# Altium footprint library Connector_USB.PcbLib: 26 footprints (part 2 of 2)
Each footprint in its own frame and in the unit in brackets; x right, y up, seen from the top. Pads: shape width x height; smd on the part's side, far side on the other; paste and mask are expansions set on the pad; w line width, h text height; cw(c..) or ccw(c..) is an arc to the next point about the centre after c.
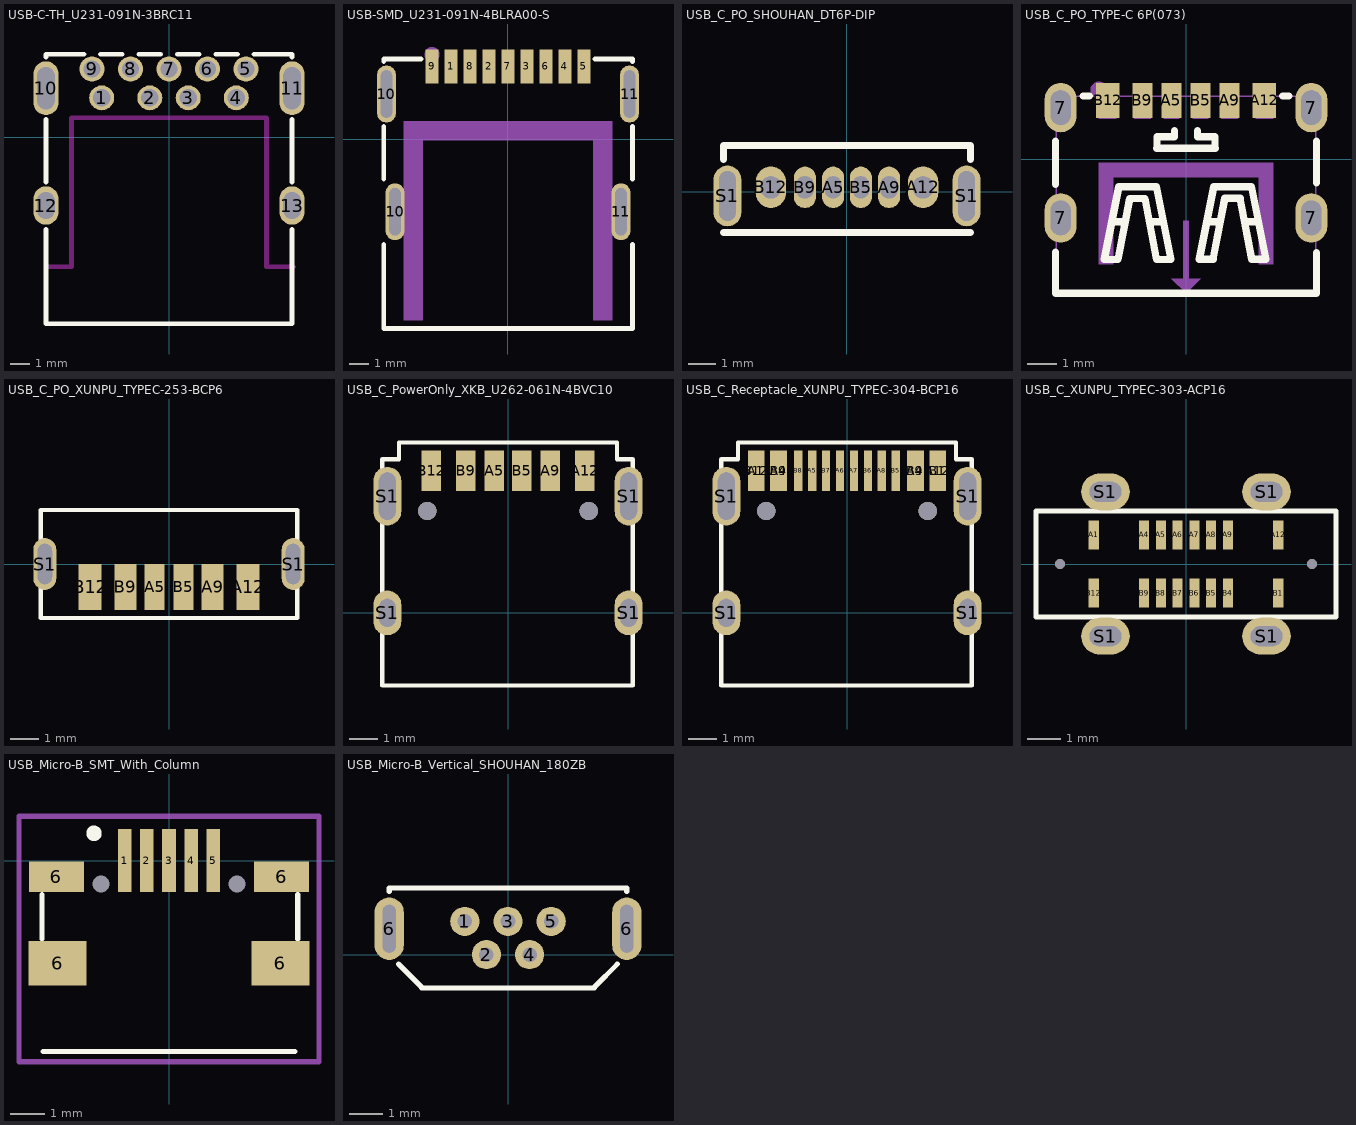
[diagram p1: the footprints below, top view; thin cyan lines are the x and y axes]

## USB-C-TH_U231-091N-3BRC11 [mm]
pads (13):
  round 1.3 hole 0.9: 1(-3.5,2.05) 2(-1,2.05) 3(1,2.05) 4(3.5,2.05) 5(4,3.55) 6(2,3.55) 7(0,3.55) 8(-2,3.55) 9(-4,3.55)
  oval 1.3x2.8 hole 0.9 slot 2.2 at 90 deg: 10(-6.4,2.55) 11(6.4,2.55)
  oval 1.3x2 hole 0.9 slot 1.4 at 90 deg: 12(-6.4,-3.55) 13(6.4,-3.55)
Top Overlay:
  lines w0.254: -6.4,-4.781 -6.4,-9.7 6.4,-9.7 ; -6.4,-2.319 -6.4,0.919 ; -6.4,4.181 -6.4,4.318 -4.429,4.318 ; -3.571,4.318 -2.429,4.318 ; -1.571,4.318 -0.429,4.318 ; 0.429,4.318 1.571,4.318 ; 2.429,4.318 3.571,4.318 ; 4.429,4.318 6.35,4.318 ; 6.4,-9.642 6.4,-4.781 ; 6.4,-2.319 6.4,0.919 ; 6.4,4.181 6.4,4.318
Keep-Out Layer:
  lines w0.254: -6.35,-6.731 -5.08,-6.731 -5.08,1.016 5.08,1.016 5.08,-6.731 6.477,-6.731
3D body "u231-091n-3brc11.stp": height 5.91, standoff -1.55, extent -6.55,-9.75 6.55,3.95

## USB-SMD_U231-091N-4BLRA00-S [mm]
pads (13):
  rect 0.7x1.8 smd: 1(-3,3.825) 2(-1,3.825) 3(1,3.825) 4(3,3.825) 5(4,3.825) 6(2,3.825) 7(0,3.825) 8(-2,3.825) 9(-4,3.825)
  oval 1x3 hole 0.6 slot 2.5 at 90 deg: 10(-6.4,2.375) 10(-5.95,-3.825) 11(5.95,-3.825) 11(6.4,2.375)
Top Overlay:
  lines w0.254: -6.54,-5.543 -6.54,-9.97 6.55,-9.98 6.55,-5.541 ; -6.54,-2.107 -6.54,0.657 ; -6.54,4.093 -6.54,4.22 -4.581,4.22 ; 4.581,4.22 6.55,4.22 6.55,4.091 ; 6.55,-2.11 6.55,0.659
Top Paste:
  region: -4.35,4.725 -3.65,4.725 -3.65,2.925 -4.35,2.925
  region: -2.35,4.725 -1.65,4.725 -1.65,2.925 -2.35,2.925
  region: -0.35,4.725 0.35,4.725 0.35,2.925 -0.35,2.925
  region: 1.65,4.725 2.35,4.725 2.35,2.925 1.65,2.925
  region: 3.65,4.725 4.35,4.725 4.35,2.925 3.65,2.925
  region: 2.65,4.725 3.35,4.725 3.35,2.925 2.65,2.925
  region: 0.65,4.725 1.35,4.725 1.35,2.925 0.65,2.925
  region: -1.35,4.725 -0.65,4.725 -0.65,2.925 -1.35,2.925
  region: -3.35,4.725 -2.65,4.725 -2.65,2.925 -3.35,2.925
  region: -6.45,-2.825 -6.449,-2.726 -6.372,-2.544 -6.232,-2.405 -6.049,-2.33 -5.851,-2.33 -5.668,-2.405 -5.528,-2.544 -5.451,-2.726 -5.45,-2.825 -5.45,-4.825 -5.451,-4.924 -5.528,-5.106 -5.668,-5.245 -5.851,-5.32 -6.049,-5.32 -6.232,-5.245 -6.372,-5.106 -6.449,-4.924 -6.45,-4.825
  region: 5.45,-2.825 5.451,-2.726 5.528,-2.544 5.668,-2.405 5.851,-2.33 6.049,-2.33 6.232,-2.405 6.372,-2.544 6.449,-2.726 6.45,-2.825 6.45,-4.825 6.449,-4.924 6.372,-5.106 6.232,-5.245 6.049,-5.32 5.851,-5.32 5.668,-5.245 5.528,-5.106 5.451,-4.924 5.45,-4.825
  region: -6.9,3.375 -6.899,3.474 -6.822,3.656 -6.682,3.796 -6.499,3.871 -6.301,3.871 -6.118,3.796 -5.977,3.656 -5.901,3.474 -5.9,3.375 -5.9,1.375 -5.901,1.276 -5.977,1.093 -6.118,0.954 -6.301,0.878 -6.499,0.878 -6.682,0.954 -6.822,1.093 -6.899,1.276 -6.9,1.375
  region: 5.9,3.375 5.9,3.474 5.976,3.658 6.117,3.799 6.301,3.875 6.5,3.875 6.683,3.799 6.824,3.658 6.9,3.474 6.9,3.375 6.9,1.375 6.9,1.275 6.824,1.091 6.683,0.951 6.5,0.875 6.301,0.875 6.117,0.951 5.976,1.091 5.9,1.275 5.9,1.375
Mechanical 15:
  circle w0.4: c-4,4.45 r0.2
  region: -5.5,-9.55 -5.5,0.95 -4.5,0.95 -4.5,-9.55
  region: 5.5,-9.55 5.5,0.95 4.5,0.95 4.5,-9.55
  region: -4.5,0.95 4.5,0.95 4.5,-0.05 -4.5,-0.05
3D body "u231-091n-4blra00-s.stp": height 7.7, standoff -1.64, extent -7.25,-10.395 7.25,3.825

## USB_C_PO_SHOUHAN_DT6P-DIP [mm]
pads (8):
  oval 0.8x1.498 hole 0.6 slot 0.8 at 90 deg: A5(-0.5,0.155) B5(0.5,0.155)
  oval 0.8x1.498 hole 0.65 slot 0.8 at 90 deg: A9(1.52,0.155) B9(-1.52,0.155)
  oval 1.1x1.499 hole 0.75 slot 0.8 at 90 deg: A12(2.75,0.155) B12(-2.75,0.155)
  oval 1x2.199 hole 0.6 slot 1.8 at 90 deg: S1(-4.32,-0.155) S1(4.32,-0.155)
Top Overlay:
  lines w0.254: -4.47,1.161 -4.47,1.675 4.47,1.675 4.47,1.161 ; 4.47,-1.471 4.47,-1.485 -4.47,-1.485 ; -4.47,-1.485 -4.47,-1.471 -4.47,-1.485

## USB_C_PO_TYPE-C 6P(073) [mm]
pads (10):
  oval 1.1x1.7 hole 0.7 slot 1.2 at 90 deg: 7(-4.32,-2.025) 7(-4.32,1.775) 7(4.32,-2.025) 7(4.32,1.775)
  rect 0.7x1.2 smd paste-100 mask+0.051: A5(-0.5,2.025) A9(1.5,2.025) B5(0.5,2.025) B9(-1.5,2.025)
  rect 0.8x1.2 smd paste-100 mask+0.051: A12(2.7,2.025) B12(-2.7,2.025)
Top Overlay:
  lines w0.25: -4.501,-3.226 -4.501,-3.203 -4.501,-4.626 4.501,-4.626 4.501,-3.226 ; -4.5,-0.867 -4.5,0.575 -4.5,0.617 ; -3.541,2.175 -3.329,2.175 ; -1.01,0.375 1.01,0.375 ; -1,0.375 -1,0.775 -0.4,0.775 -0.4,0.975 ; 0.4,0.975 0.4,0.775 1,0.775 1,0.375 ; 3.329,2.175 3.541,2.175 ; 4.5,-0.825 4.5,0.625
  lines w0.254: -2.518,-2.158 -2.119,-2.158 ; -1.219,-2.157 -0.819,-2.157 ; 0.759,-2.153 1.158,-2.153 ; 2.058,-2.152 2.458,-2.152 ; -2.818,-3.458 -2.32,-0.956 -1.019,-0.956 -0.519,-3.458 -1.014,-3.458 -1.413,-1.358 -1.941,-1.358 -2.343,-3.458 -2.818,-3.458 ; 0.459,-3.453 0.957,-0.951 2.257,-0.951 2.758,-3.453 2.263,-3.453 1.864,-1.353 1.335,-1.353 0.934,-3.453 0.459,-3.453
Top Paste:
  drawing of 10 lines, arcs and shapes, not listed
Mechanical 6:
  circle w0.3: c-3,2.375 r0.15
  region: -3,-3.625 -3,-0.125 -2.5,-0.125 -2.5,-3.625
  region: 3,-3.625 3,-0.125 2.5,-0.125 2.5,-3.625
  region: -2.5,-0.125 2.5,-0.125 2.5,-0.625 -2.5,-0.625
  region: -0.5,-4.125 0.5,-4.125 0,-4.625
  region: 0,-4.125 -0.1,-4.125 -0.1,-2.125 0.1,-2.125 0.1,-4.125
Mechanical 15:
  region: 4.53,-4.625 4.529,-4.601 4.494,-4.568 4.446,-4.568 4.411,-4.601 4.41,-4.625 4.411,-4.649 4.446,-4.682 4.494,-4.682 4.529,-4.649 4.53,-4.625
  region: -0.76,2.15 -0.24,2.15 -0.24,1.4 -0.76,1.4
  region: 0.24,2.15 0.76,2.15 0.76,1.4 0.24,1.4
  region: 1.22,2.15 1.78,2.15 1.78,1.4 1.22,1.4
  region: -1.78,2.15 -1.22,2.15 -1.22,1.4 -1.78,1.4
  region: 2.4,2.15 3,2.15 3,1.4 2.4,1.4
  region: -3,2.15 -2.4,2.15 -2.4,1.4 -3,1.4
  region: 4.17,2.175 4.47,2.175 4.47,1.375 4.17,1.375
  region: 4.17,-1.625 4.47,-1.625 4.47,-2.425 4.17,-2.425
  region: -4.47,-1.625 -4.17,-1.625 -4.17,-2.425 -4.47,-2.425
  region: -4.47,2.175 -4.17,2.175 -4.17,1.375 -4.47,1.375
  lines w0.051: -4.47,-4.625 -4.47,2.175 4.47,2.175 4.47,-4.625 -4.47,-4.625
3D body "1111111111.stp": height 3.26, standoff -1, extent -4.47,-4.631 4.47,2.269

## USB_C_PO_XUNPU_TYPEC-253-BCP6 [mm]
pads (8):
  rect 0.7x1.6 smd: A5(-0.5,-0.8) B5(0.5,-0.8)
  rect 0.76x1.6 smd: A9(1.52,-0.8) B9(-1.52,-0.8)
  rect 0.8x1.6 smd: A12(2.75,-0.8) B12(-2.75,-0.8)
  oval 0.8x1.8 hole 0.5 slot 1.4 at 90 deg: S1(-4.323,0) S1(4.323,0)
Top Overlay:
  lines w0.152: -4.47,-1.88 4.47,-1.88 4.47,1.88 -4.47,1.88 -4.47,-1.88

## USB_C_PowerOnly_XKB_U262-061N-4BVC10 [mm]
pads (10):
  rect 0.7x1.45 smd: A5(-0.5,5.095) A9(1.52,5.095) A12(2.75,5.095) B5(0.5,5.095) B9(-1.52,5.095) B12(-2.75,5.095)
  oval 1x1.6 hole 0.6 slot 1 at 90 deg: S1(-4.32,0) S1(4.32,0)
  oval 1x2.1 hole 0.6 slot 1.7 at 90 deg: S1(-4.32,4.18) S1(4.32,4.18)
via -2.89,3.65 diameter 0.65 hole 0.65
via 2.89,3.65 diameter 0.65 hole 0.65
Top Overlay:
  lines w0.152: -4.5,-2.6 4.47,-2.6 4.47,5.5 3.9,5.5 3.9,6.1 0,6.1 -3.9,6.1 -3.9,5.5 -4.5,5.5 -4.5,-2.6
3D body "User Library-USB Type C Port (SMD Type).STEP": height 3.3, standoff -0.9, extent -4.47,-2.6 4.47,5.3

## USB_C_Receptacle_XUNPU_TYPEC-304-BCP16 [mm]
pads (20):
  rect 0.6x1.45 smd: A1(-3.25,5.095) A4(-2.45,5.095) A9(2.45,5.095) A12(3.25,5.095) B1(3.25,5.095) B4(2.45,5.095) B9(-2.45,5.095) B12(-3.25,5.095)
  rect 0.3x1.45 smd: A5(-1.25,5.095) A6(-0.25,5.095) A7(0.25,5.095) A8(1.25,5.095) B5(1.75,5.095) B6(0.75,5.095) B7(-0.75,5.095) B8(-1.75,5.095)
  oval 1x1.6 hole 0.6 slot 1 at 90 deg: S1(-4.32,0) S1(4.32,0)
  oval 1x2.1 hole 0.6 slot 1.7 at 90 deg: S1(-4.32,4.18) S1(4.32,4.18)
via 2.89,3.65 diameter 0.65 hole 0.65
via -2.89,3.65 diameter 0.65 hole 0.65
Top Overlay:
  lines w0.152: -4.5,-2.6 -4.5,5.5 -3.9,5.5 -3.9,6.1 0,6.1 3.9,6.1 3.9,5.5 4.47,5.5 4.47,-2.6 -4.5,-2.6
3D body "User Library-USB Type C Port (SMD Type).STEP": height 3.3, standoff -0.9, extent -4.47,-2.6 4.47,5.3

## USB_C_XUNPU_TYPEC-303-ACP16 [mm]
pads (20):
  rect 0.3x0.87 smd: A1(-2.75,0.865) A4(-1.25,0.865) A5(-0.75,0.865) A6(-0.25,0.865) A7(0.25,0.865) A8(0.75,0.865) A9(1.25,0.865) A12(2.75,0.865) B1(2.75,-0.865) B4(1.25,-0.865) B5(0.75,-0.865) B6(0.25,-0.865) B7(-0.25,-0.865) B8(-0.75,-0.865) B9(-1.25,-0.865) B12(-2.75,-0.865)
  oval 1.45x1.1 hole 0.6 slot 0.95 at 0 deg: S1(-2.4,-2.15) S1(-2.4,2.15) S1(2.4,-2.15) S1(2.4,2.15)
via -3.75,0 diameter 0.3 hole 0.3
via 3.75,0 diameter 0.3 hole 0.3
Top Overlay:
  lines w0.152: -4.47,-1.58 -4.47,1.58 4.47,1.58 4.47,-1.58 -4.47,-1.58

## USB_Micro-B_SMT_With_Column [mm]
pads (11):
  rect 0.4x1.85 smd: 1(-1.3,0) 2(-0.65,0) 3(0,0) 4(0.65,0) 5(1.3,0)
  rect 1.6x0.9 smd: 6(-3.3,-0.475) 6(3.3,-0.475)
  rect 1.69x1.3 smd: 6(-3.27,-3.013) 6(3.27,-3.013)
  round 0 hole 0.5: ""(-2,-0.685) ""(2,-0.685)
Top Overlay:
  circle w0.254: c-2.2,0.8 r0.1
  lines w0.152: -3.721,-2.3 -3.721,-1 ; -3.7,-5.6 3.7,-5.6 ; 3.779,-2.3 3.779,-1
Mechanical 15:
  lines w0.152: -4.4,-5.9 4.4,-5.9 4.4,1.3 -4.4,1.3 -4.4,-5.9
3D body "473460001.stp": height 2.77, standoff -0.17, extent -3.961,-5.58 4.019,-0.15

## USB_Micro-B_Vertical_SHOUHAN_180ZB [mm]
pads (7):
  round 0.88 hole 0.44: 1(-1.3,1) 2(-0.65,0) 3(0,1) 4(0.65,0) 5(1.3,1)
  oval 0.88x1.88 hole 0.4 slot 1.44 at 90 deg: 6(-3.575,0.78) 6(3.575,0.78)
Top Overlay:
  lines w0.152: -3.575,1.9 -3.575,2 3.575,2 3.575,1.9 ; -3.294,-0.281 -2.618,-0.957 cw(c-2.66,-1) -2.6,-1 2.6,-1 cw(c2.66,-1) 2.618,-0.957 3.288,-0.287